# EAGLE library part ESP-07 (library RadioShield)
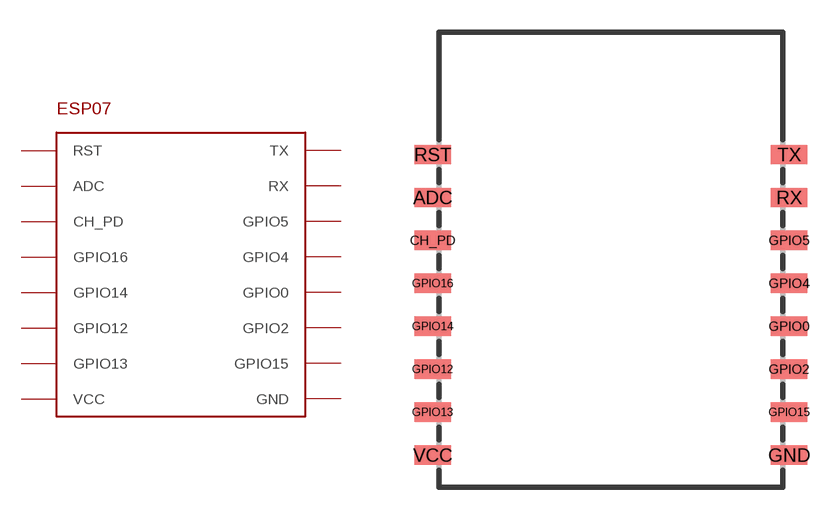
[diagram p1: symbol with the pads of ESP07; footprint ESP07]

Designator prefix -

## ESP-07  [ESP07]
ADC  ADC
CH_PD  CH_PD
GND  GND
GPIO0  GPIO0
GPIO2  GPIO2
GPIO4  GPIO4
GPIO5  GPIO5
GPIO12  GPIO12
GPIO13  GPIO13
GPIO14  GPIO14
GPIO15  GPIO15
GPIO16  GPIO16
RST  RST
RX  RX
TX  TX
VCC  VCC

## Footprint ESP07 (pad centres in mm)
smd 1.7 x 0.9: ADC -8.3,2.9; CH_PD -8.3,0.9; GND 8.3,-9.1; GPIO0 8.3,-3.1; GPIO2 8.3,-5.1; GPIO4 8.3,-1.1; GPIO5 8.3,0.9; GPIO12 -8.3,-5.1; GPIO13 -8.3,-7.1; GPIO14 -8.3,-3.1; GPIO15 8.3,-7.1; GPIO16 -8.3,-1.1; RST -8.3,4.9; RX 8.3,2.9; TX 8.3,4.9; VCC -8.3,-9.1